# EAGLE library part TPS5430 (library _RoweTel)
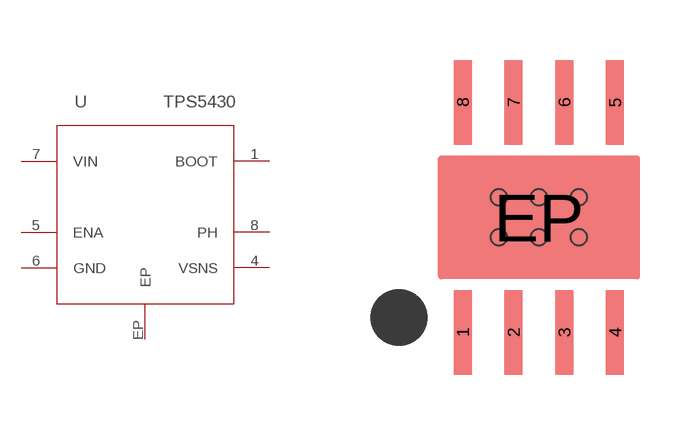
[diagram p56: symbol with the pads of TPS5430; footprint TPS5430]

Designator prefix U

## TPS5430  [TPS5430]
1  BOOT
4  VSNS
5  ENA
6  GND
7  VIN
8  PH
EP  EP

## Footprint TPS5430 (pad centres in mm)
smd 0.45 x 2.12: 1 -1.905,-2.875; 2 -0.635,-2.875; 3 0.635,-2.875; 4 1.905,-2.875; 5 1.905,2.875; 6 0.635,2.875; 7 -0.635,2.875; 8 -1.905,2.875
smd 3.1 x 2.4: EP 0,0
hole 0.4 at -1,0.5
hole 0.4 at 0,0.5
hole 0.4 at 1,0.5
hole 0.4 at 1,-0.5
hole 0.4 at 0,-0.5
hole 0.4 at -1,-0.5